# EAGLE library part SWITCH_DPDT (library microbuilder)
Switch - DPDT A DPDT Switch acts like an SPDT switch, but has a pair of switches instead of just one. Vertical - 0.3A @ 6V SMT - Digikey: JS202011SCQN
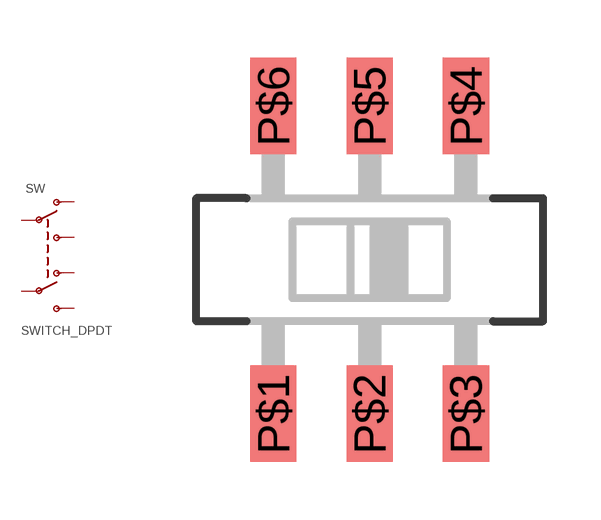
[diagram p117: symbol with the pads of DPDT_SMT_JS202011SCQN; footprint DPDT_SMT_JS202011SCQN]

Designator prefix SW

## SWITCH_DPDT  [DPDT_SMT_JS202011SCQN]
P$1  O1  pas
P$2  P1  pas
P$3  S1  pas
P$4  S2  pas
P$5  P2  pas
P$6  O2  pas

## Footprint DPDT_SMT_JS202011SCQN (pad centres in mm)
smd 1.2 x 2.5: P$1 -2.5,-4; P$2 0,-4; P$3 2.5,-4; P$4 2.5,4; P$5 0,4; P$6 -2.5,4